# Altium footprint library BQ25570RGRR.PcbLib: 1 footprints
Each footprint in its own frame and in the unit in brackets; x right, y up, seen from the top. Pads: shape width x height; smd on the part's side, far side on the other; paste and mask are expansions set on the pad; w line width, h text height; cw(c..) or ccw(c..) is an arc to the next point about the centre after c.
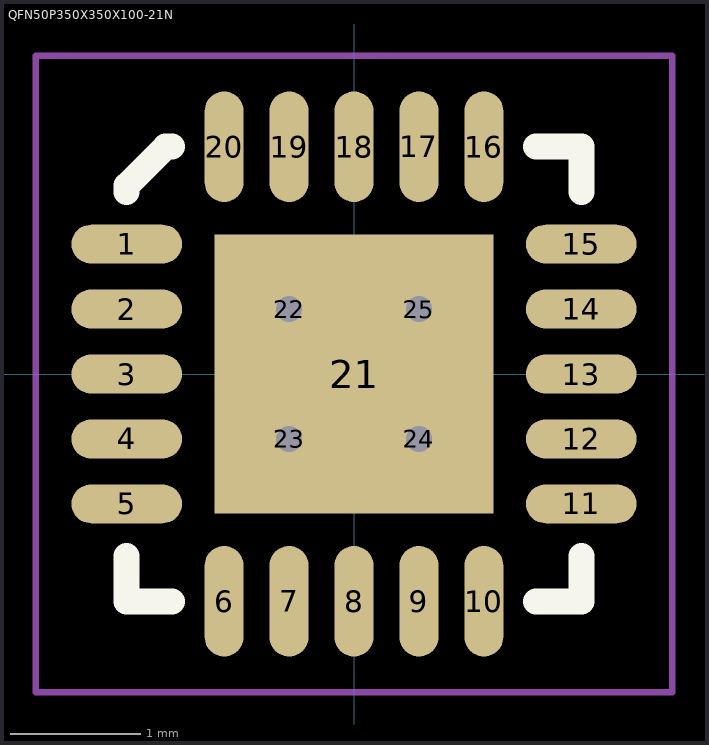
[diagram p0: the footprint, top view; thin cyan lines are the x and y axes]

## QFN50P350X350X100-21N [mm]
pads (25):
  oval 0.85x0.3 smd: 1(-1.75,1) 2(-1.75,0.5) 3(-1.75,0) 4(-1.75,-0.5) 5(-1.75,-1) 11(1.75,-1) 12(1.75,-0.5) 13(1.75,0) 14(1.75,0.5) 15(1.75,1)
  oval 0.3x0.85 smd: 6(-1,-1.75) 7(-0.5,-1.75) 8(0,-1.75) 9(0.5,-1.75) 10(1,-1.75) 16(1,1.75) 17(0.5,1.75) 18(0,1.75) 19(-0.5,1.75) 20(-1,1.75)
  rect 2.15x2.15 smd: 21(0,0)
  round 0.3 hole 0.2: 22(-0.5,0.5) 23(-0.5,-0.5) 24(0.5,-0.5) 25(0.5,0.5)
Top Overlay:
  lines w0.2: -1.75,-1.4 -1.75,-1.75 -1.4,-1.75 ; -1.75,1.4 -1.75,1.45 -1.45,1.75 -1.4,1.75 ; 1.4,-1.75 1.75,-1.75 1.75,-1.4 ; 1.4,1.75 1.75,1.75 1.75,1.4
Top Paste:
  region: -0.971,-0.971 -0.971,-0.15 -0.15,-0.15 -0.15,-0.971
  region: 0.97,0.97 0.97,0.15 0.15,0.15 0.15,0.97
  region: 0.97,-0.97 0.15,-0.97 0.15,-0.15 0.97,-0.15
  region: -0.972,0.97 -0.15,0.97 -0.15,0.15 -0.972,0.15
Mechanical 16:
  lines w0.05: -2.45,-2.45 -2.45,2.45 2.45,2.45 2.45,-2.45 -2.45,-2.45